# EAGLE library part PICAXE-40X2 (library bt_pic)
PICAXE 40 pin BASIC microcontroller chip PICAXE is a neat entry-level microcontroller system that is relatively cheap to get started with. The chip is programmed with a simple serial connection and the BASIC development environment is free! PICAXE has some excellent educational applications and support, and is a great entryway into more complicated embedded systems. If you’re look for a place to start with microcontrollers, PICAXE is a great way to go! datasheet.pdf <http://www.rev-ed.co.uk/docs/picaxe_manual1.pdf>
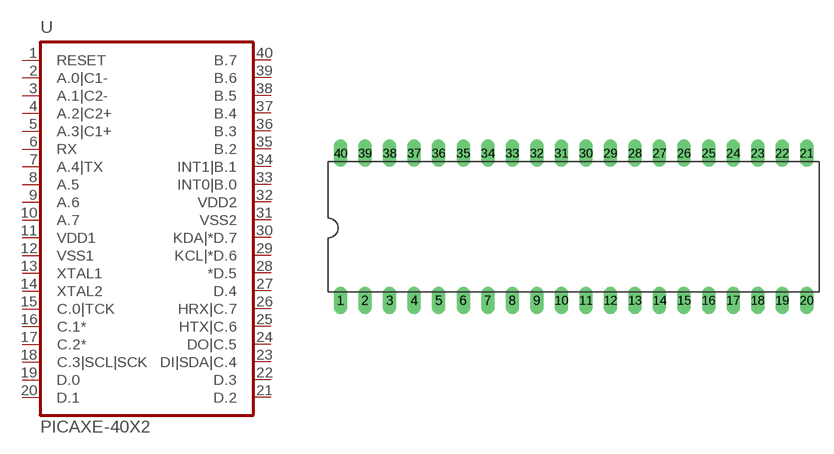
[diagram p11: symbol with the pads of DIL40; footprint DIL40]

Designator prefix U

## PICAXE-40X2  [DIL40]
1  RESET  in
2  A.0|C1-
3  A.1|C2-
4  A.2|C2+
5  A.3|C1+
6  RX  in
7  A.4|TX  out
8  A.5
9  A.6
10  A.7
11  VDD1  pwr
12  VSS1  pwr
13  XTAL1  pas
14  XTAL2  pas
15  C.0|TCK  in
16  C.1*  in
17  C.2*  in
18  C.3|SCL|SCK  in
19  D.0  in
20  D.1  in
21  D.2  in
22  D.3  in
23  DI|SDA|C.4  in
24  DO|C.5  in
25  HTX|C.6
26  HRX|C.7  in
27  D.4  in
28  *D.5  in
29  KCL|*D.6  in
30  KDA|*D.7  in
31  VSS2  pwr
32  VDD2  pwr
33  INT0|B.0  out
34  INT1|B.1  out
35  B.2  out
36  B.3  out
37  B.4  out
38  B.5  out
39  B.6  out
40  B.7  out

## Footprint DIL40 (pad centres in mm)
drill 0.813 pad 1.422 long: 1 -24.13,-7.62; 2 -21.59,-7.62; 3 -19.05,-7.62; 4 -16.51,-7.62; 5 -13.97,-7.62; 6 -11.43,-7.62; 7 -8.89,-7.62; 8 -6.35,-7.62; 9 -3.81,-7.62; 10 -1.27,-7.62; 11 1.27,-7.62; 12 3.81,-7.62; 13 6.35,-7.62; 14 8.89,-7.62; 15 11.43,-7.62; 16 13.97,-7.62; 17 16.51,-7.62; 18 19.05,-7.62; 19 21.59,-7.62; 20 24.13,-7.62; 21 24.13,7.62; 22 21.59,7.62; 23 19.05,7.62; 24 16.51,7.62; 25 13.97,7.62; 26 11.43,7.62; 27 8.89,7.62; 28 6.35,7.62; 29 3.81,7.62; 30 1.27,7.62; 31 -1.27,7.62; 32 -3.81,7.62; 33 -6.35,7.62; 34 -8.89,7.62; 35 -11.43,7.62; 36 -13.97,7.62; 37 -16.51,7.62; 38 -19.05,7.62; 39 -21.59,7.62; 40 -24.13,7.62